# Altium schematic symbol library AltiumLibraries.SchLib: 565 symbols (part 5 of 5)
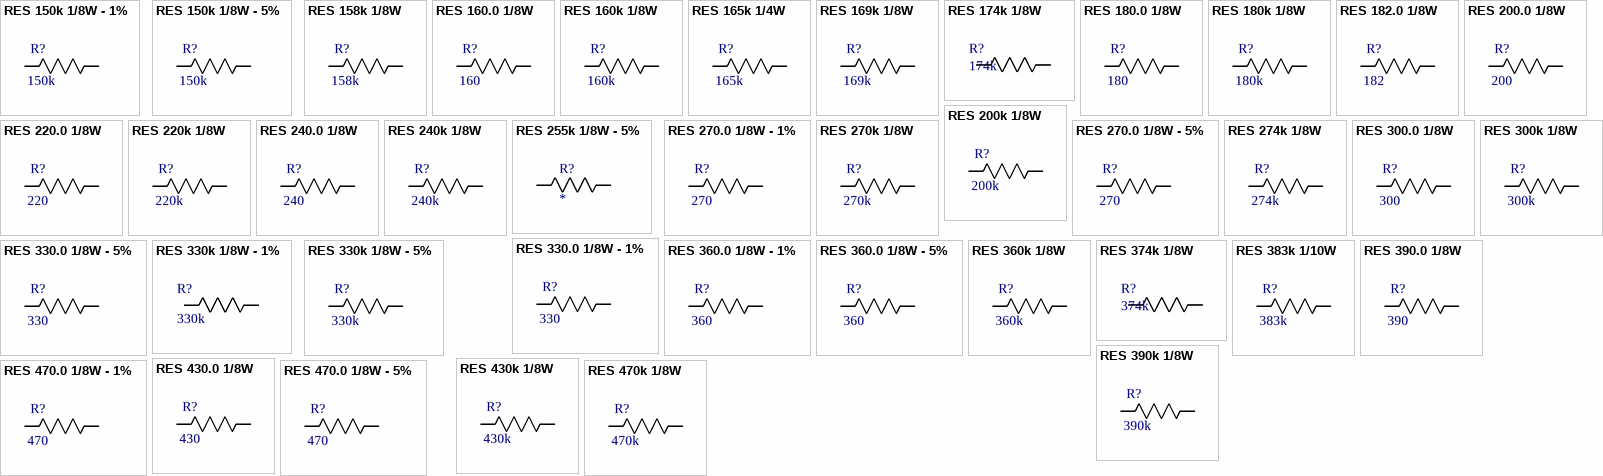
[diagram p19: symbols RES 150k 1/8W - 1% to RES 470k 1/8W]

## RES 374k 1/8W
designator R?, comment 374k
RES SMD 374K OHM 0.1% 1/8W 0805; Manufacturer: Panasonic; Manufacturer Part Number: ERA-6AEB3743V; Resistance: 374kR; Temperature Coefficient: 25ppm/°C; Max Power Dissipation: 125mW; Voltage Rating: 100V; Supplier 1: Digi-Key; RoHS: Yes; Category: Chip SMD Resistors; Stock 1: 10062; Pricing 1: 1=0.34000, 10=0.28800, 100=0.11260, 1000=0.04712, 2500=0.04320 (USD); Mount: Surface Mount; Case/Package: 0805; Number of Pins: 2; Contact Plating: Tin; Case Code (Metric): 2012; Case Code (Imperial): 0805; Min Operating Temperature: -55°C; Max Operating Temperature: 155°C; Tolerance: 0.1%; Packaging: Tape and Reel; Package Quantity: 5000; Features: Automotive AEC-Q200; Number of Terminations: 2; Composition: Thin Film,Metal Film; Power Rating: 125mW; Termination: Solder; Voltage Rating (DC): 100V; Length: 2mm; Height: 0.5mm; Width: 1.25mm; Depth: 1.25mm; Radiation Hardening: No; Lead Free: Lead Free; ComponentLink1URL: https://datasheet.ciiva.com/11810/0900766b80eb1d8c-11810612.pdf?src-supplier=RSComponents; ComponentLink1Description: https://datasheet.ciiva.com/11810/0900766b80eb1d8c-11810612.pdf?src-supplier=RSComponents; ComponentLink2URL: https://datasheet.ciiva.com/41450/001181392-da-01-en-widerstand-era-0805-374k-0-1-5000st-41450550.pdf?src-supplier=Conrad; ComponentLink2Description: https://datasheet.ciiva.com/41450/001181392-da-01-en-widerstand-era-0805-374k-0-1-5000st-41450550.pdf?src-supplier=Conrad; ComponentLink3URL: https://datasheet.ciiva.com/17206/aoa0000ce26-17206008.pdf?src-supplier=Avnet+Europe; ComponentLink3Description: https://datasheet.ciiva.com/17206/aoa0000ce26-17206008.pdf?src-supplier=Avnet+Europe; ComponentLink4URL: https://datasheet.ciiva.com/6001/485442-6001717.pdf?src-supplier=Farnell; ComponentLink4Description: https://datasheet.ciiva.com/6001/485442-6001717.pdf?src-supplier=Farnell; ComponentLink5URL: https://datasheet.ciiva.com/9182/aoa0000ce26-9182549.pdf?src-supplier=Avnet; ComponentLink5Description: https://datasheet.ciiva.com/9182/aoa0000ce26-9182549.pdf?src-supplier=Avnet; ComponentLink6URL: https://datasheet.ciiva.com/6001/485442-6001718.pdf?src-supplier=Farnell; ComponentLink6Description: https://datasheet.ciiva.com/6001/485442-6001718.pdf?src-supplier=Farnell; ComponentLink7URL: https://datasheet.ciiva.com/7753/485442-7753884.pdf?src-supplier=Element14; ComponentLink7Description: https://datasheet.ciiva.com/7753/485442-7753884.pdf?src-supplier=Element14; ComponentLink8URL: https://datasheet.ciiva.com/7753/485442-7753885.pdf?src-supplier=Element14; ComponentLink8Description: https://datasheet.ciiva.com/7753/485442-7753885.pdf?src-supplier=Element14; Supplier Part Number 1: P374KDACT-ND
footprint 0805
pins: 1 R1, 2 R2

## RES 383k 1/10W
designator R?, comment 383k
RES SMD 383k OHM 1% 1/10W 0603; Power (Watts): 0.1W; Package: 0603; Value: 383k; Tolerance: 1%
footprint 0603
pins: 1 R1, 2 R2

## RES 390.0 1/8W
designator R?, comment 390
RES SMD 390 OHM 5% 1/8W 0805; Power (Watts): 0.125W; Package: 0805; Value: 390; Tolerance: 5%
footprint 0805
pins: 1 R1, 2 R2

## RES 390k 1/8W
designator R?, comment 390k
RES SMD 390K OHM 5% 1/8W 0805; Power (Watts): 0.125W; Package: 0805; Value: 390k; Tolerance: 5%
footprint 0805
pins: 1 R1, 2 R2

## RES 430.0 1/8W
designator R?, comment 430
RES SMD 430 OHM 5% 1/8W 0805; Power (Watts): 0.125W; Package: 0805; Value: 430; Tolerance: 5%
footprint 0805
pins: 1 R1, 2 R2

## RES 430k 1/8W
designator R?, comment 430k
RES SMD 430K OHM 5% 1/8W 0805; Power (Watts): 0.125W; Package: 0805; Value: 430k; Tolerance: 5%
footprint 0805
pins: 1 R1, 2 R2

## RES 470.0 1/8W - 1%
designator R?, comment 470
RES SMD 470 OHM 1% 1/8W 0805; Power (Watts): 0.125W; Package: 0805; Value: 470; Tolerance: 1%
footprint 0805
pins: 1 R1, 2 R2

## RES 470.0 1/8W - 5%
designator R?, comment 470
RES SMD 470 OHM 5% 1/8W 0805; Power (Watts): 0.125W; Package: 0805; Value: 470; Tolerance: 5%
footprint 0805
pins: 1 R1, 2 R2

## RES 470k 1/8W
designator R?, comment 470k
RES SMD 470K OHM 5% 1/8W 0805; Power (Watts): 0.125W; Package: 0805; Value: 470k; Tolerance: 5%
footprint 0805
pins: 1 R1, 2 R2

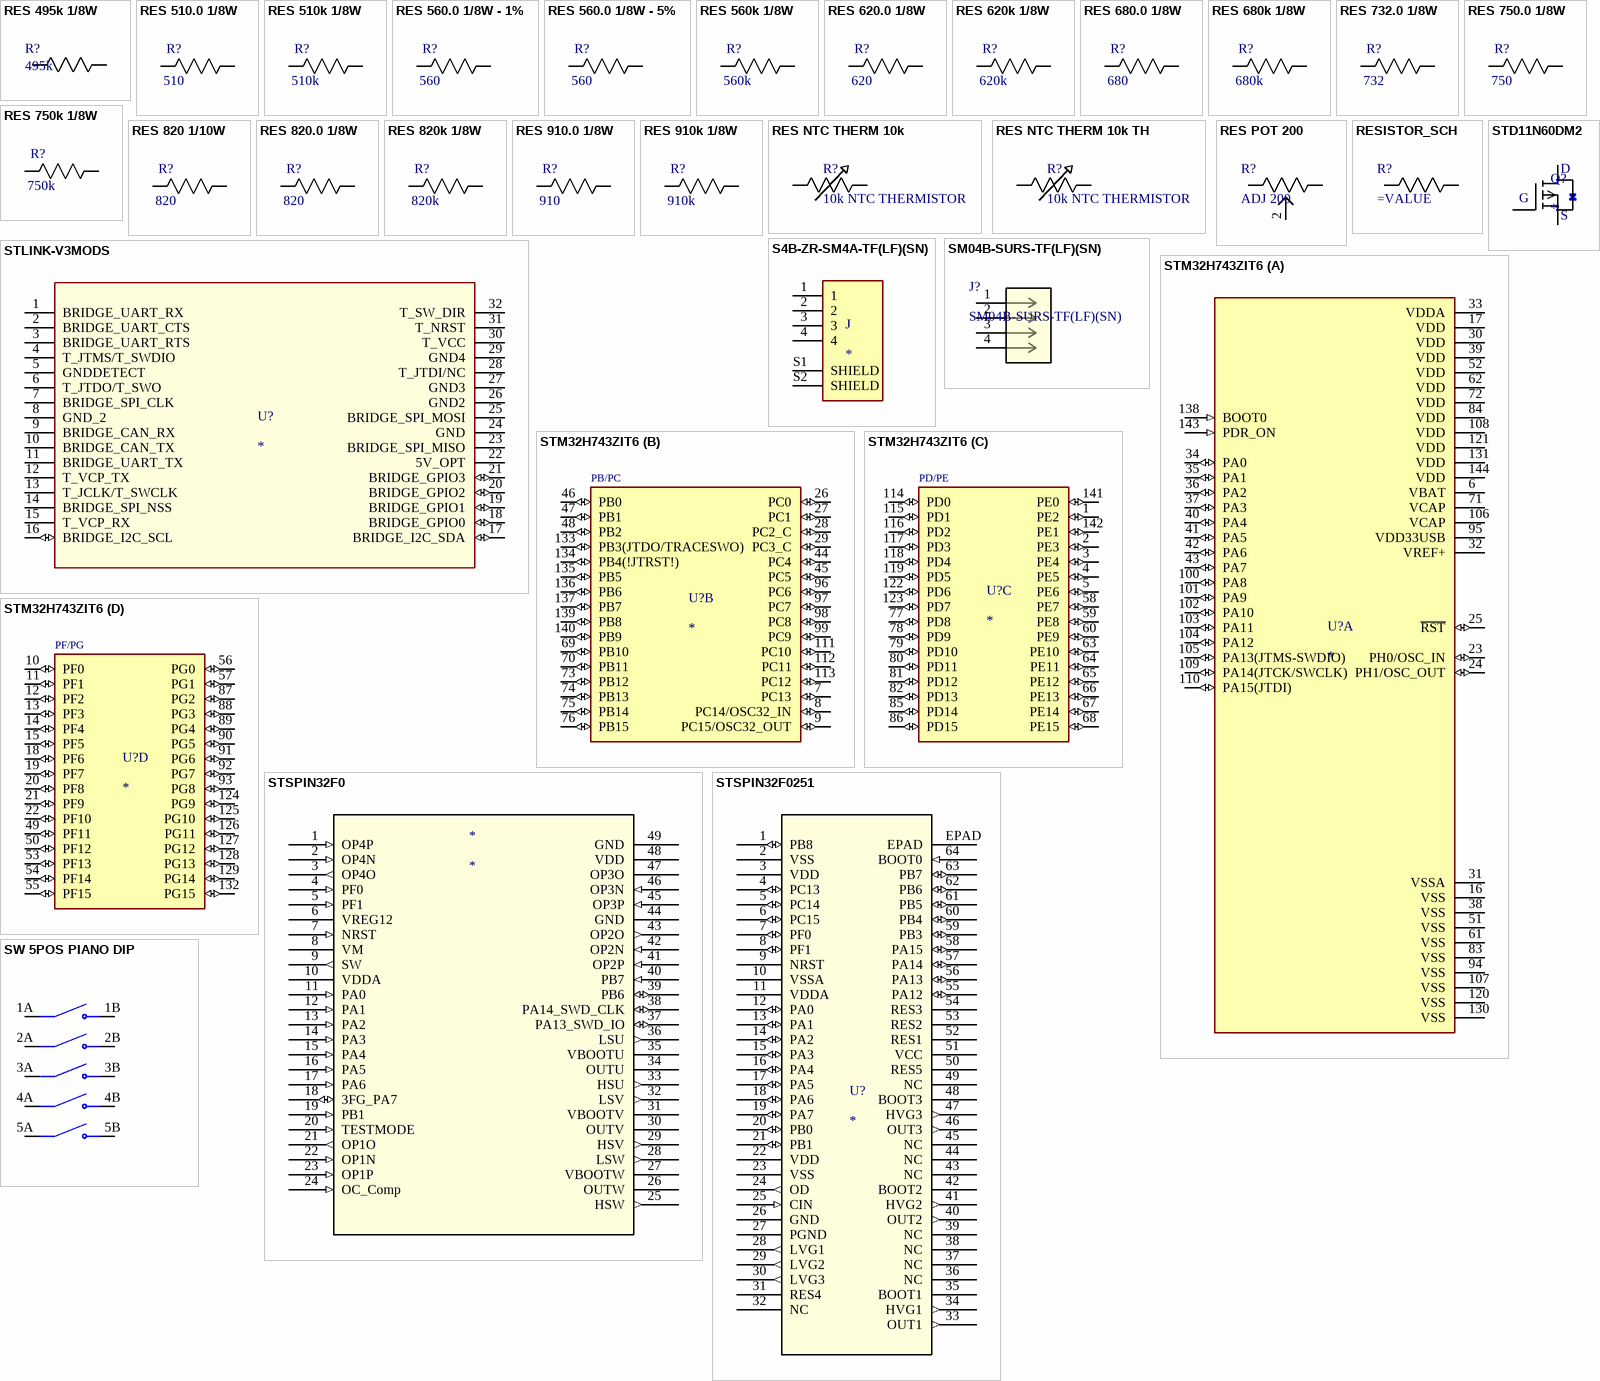
[diagram p13: symbols RES 495k 1/8W to SW 5POS PIANO DIP]

## RES 495k 1/8W
designator R?, comment 495k
RES SMD 495K OHM 1% 1/8W 0805/0603; Manufacturer: Yageo; Manufacturer Part Number: RC0805FR-07499KL; Temperature Coefficient: 100ppm/°C; Voltage Rating (DC): 150V; Resistance: 499kR; Power Rating: 125mW; Supplier 1: Digi-Key; RoHS: Yes; Category: Chip SMD Resistors; Stock 1: 2275; Pricing 1: 1=0.10000, 10=0.04000, 100=0.01630, 1000=0.00731, 2500=0.00635 (USD); Case/Package: 0805; Case Code (Metric): 2012; Case Code (Imperial): 0805; Contact Plating: Tin,Lead,Matte; Min Operating Temperature: -55°C; Max Operating Temperature: 155°C; Termination: SMD/SMT; Composition: Thick Film; Military Standard: Not; Tolerance: 1%; Voltage Rating: 150V; Packaging: Tape and Reel; Length: 2mm; Depth: 1.25mm; Radiation Hardening: No; Lead Free: Lead Free; ComponentLink1URL: https://datasheet.ciiva.com/15189/getdatasheetpartid-326570-15189975.pdf?src-supplier=Verical; ComponentLink1Description: https://datasheet.ciiva.com/15189/getdatasheetpartid-326570-15189975.pdf?src-supplier=Verical; Supplier Part Number 1: 311-499KCRCT-ND
footprint 0805
footprint 0603
pins: 1 R1, 2 R2

## RES 510.0 1/8W
designator R?, comment 510
RES SMD 510 OHM 5% 1/8W 0805; Power (Watts): 0.125W; Package: 0805; Value: 510; Tolerance: 5%
footprint 0805
pins: 1 R1, 2 R2

## RES 510k 1/8W
designator R?, comment 510k
RES SMD 510K OHM 5% 1/8W 0805; Power (Watts): 0.125W; Package: 0805; Value: 510k; Tolerance: 5%
footprint 0805
pins: 1 R1, 2 R2

## RES 560.0 1/8W - 1%
designator R?, comment 560
RES SMD 560 OHM 1% 1/8W 0805; Power (Watts): 0.125W; Package: 0805; Value: 560; Tolerance: 1%
footprint 0805
pins: 1 R1, 2 R2

## RES 560.0 1/8W - 5%
designator R?, comment 560
RES SMD 560 OHM 5% 1/8W 0805; Power (Watts): 0.125W; Package: 0805; Value: 560; Tolerance: 5%
footprint 0805
pins: 1 R1, 2 R2

## RES 560k 1/8W
designator R?, comment 560k
RES SMD 560K OHM 5% 1/8W 0805; Power (Watts): 0.125W; Package: 0805; Value: 560k; Tolerance: 5%
footprint 0805
pins: 1 R1, 2 R2

## RES 620.0 1/8W
designator R?, comment 620
RES SMD 620 OHM 5% 1/8W 0805; Power (Watts): 0.125W; Package: 0805; Value: 620; Tolerance: 5%
footprint 0805
pins: 1 R1, 2 R2

## RES 620k 1/8W
designator R?, comment 620k
RES SMD 620K OHM 5% 1/8W 0805; Power (Watts): 0.125W; Package: 0805; Value: 620k; Tolerance: 5%
footprint 0805
pins: 1 R1, 2 R2

## RES 680.0 1/8W
designator R?, comment 680
RES SMD 680 OHM 5% 1/8W 0805; Power (Watts): 0.125W; Package: 0805; Value: 680; Tolerance: 5%
footprint 0805
pins: 1 R1, 2 R2

## RES 680k 1/8W
designator R?, comment 680k
RES SMD 680K OHM 5% 1/8W 0805; Power (Watts): 0.125W; Package: 0805; Value: 680k; Tolerance: 5%
footprint 0805
pins: 1 R1, 2 R2

## RES 732.0 1/8W
designator R?, comment 732
RES SMD 732 OHM 1% 1/8W 0805; Power (Watts): 0.125W; Package: 0805; Value: 732; Tolerance: 1%
footprint 0805
pins: 1 R1, 2 R2

## RES 750.0 1/8W
designator R?, comment 750
RES SMD 750 OHM 5% 1/8W 0805; Power (Watts): 0.125W; Package: 0805; Value: 750; Tolerance: 5%
footprint 0805
pins: 1 R1, 2 R2

## RES 750k 1/8W
designator R?, comment 750k
RES SMD 750K OHM 5% 1/8W 0805; Power (Watts): 0.125W; Package: 0805; Value: 750k; Tolerance: 5%
footprint 0805
pins: 1 R1, 2 R2

## RES 820 1/10W
designator R?, comment 820
RES SMD 820 OHM 1% 1/10W 0603; Power (Watts): 0.1W; Package: 0603; Value: 820; Tolerance: 1%
footprint 0603 (Chip Resistor, 2-Leads, Body 1.60x0.80mm, IPC High Density)
pins: 1 R1, 2 R2

## RES 820.0 1/8W
designator R?, comment 820
RES SMD 820 OHM 5% 1/8W 0805; Power (Watts): 0.125W; Package: 0805; Value: 820; Tolerance: 5%
footprint 0805
pins: 1 R1, 2 R2

## RES 820k 1/8W
designator R?, comment 820k
RES SMD 820k OHM 5% 1/8W 0805; Power (Watts): 0.125W; Package: 0805; Value: 820k; Tolerance: 5%
footprint 0805
pins: 1 R1, 2 R2

## RES 910.0 1/8W
designator R?, comment 910
RES SMD 910 OHM 5% 1/8W 0805; Power (Watts): 0.125W; Package: 0805; Value: 910; Tolerance: 5%
footprint 0805
pins: 1 R1, 2 R2

## RES 910k 1/8W
designator R?, comment 910k
RES SMD 910k OHM 5% 1/8W 0805; Power (Watts): 0.125W; Package: 0805; Value: 910k; Tolerance: 5%
footprint 0805
pins: 1 R1, 2 R2

## RES NTC THERM 10k
designator R?, comment 10k NTC THERMISTOR
RES SMD THERMISTOR NTC 10KOHM 3380K 0603; Manufacturer: Murata; MPN: NCP18XH103F03RB; Manufacturer Series: NCP18; Number of Terminals/Pins: 2; Tolerance: 1%; Power Rating: 100mW; Current Rating: 310uA; Accuracy: 0.7%; Thermistor Application: TEMPERATURE COMPENSATION; Supplier 1: Digi-Key; RoHS: Yes; Category: Thermistors; Stock 1: 172605; Pricing 1: 1=0.26000, 5=0.23400, 10=0.20800, 25=0.18600, 50=0.16340, 100=0.13930, 500=0.11518, 1000=0.09643 (USD); Mount: Surface Mount; Case/Package: 0603; Number of Pins: 2; Case Code (Metric): 1608; Case Code (Imperial): 0603; Terminal Finish: Tin; Package Shape: Rectangular; Min Operating Temperature: -40°C; Max Operating Temperature: 125°C; Resistance: 10k; Packaging: Tape and Reel; Package Quantity: 1; Termination: SMD/SMT; Max Power Dissipation: 100mW; Series: NCP; Resistance Tolerance: 1%; Terminal Placement: Dual; Length: 1.6mm; Height: 0.8mm; Depth: 0.8mm; Radiation Hardening: No; REACH SVHC: No SVHC; Lead Free: Lead Free; RoHS Compliant: Yes; ComponentLink1URL: https://datasheet.ciiva.com/4504/r44e-3685-4504704.pdf?src-supplier=Mouser; ComponentLink1Description: https://datasheet.ciiva.com/4504/r44e-3685-4504704.pdf?src-supplier=Mouser; ComponentLink2URL: https://datasheet.ciiva.com/11822/0900766b807f1e39-11822112.pdf?src-supplier=RSComponents; ComponentLink2Description: https://datasheet.ciiva.com/11822/0900766b807f1e39-11822112.pdf?src-supplier=RSComponents; ComponentLink3URL: https://datasheet.ciiva.com/3280/l0770e-3280357.pdf?src-supplier=Avnet; ComponentLink3Description: https://datasheet.ciiva.com/3280/l0770e-3280357.pdf?src-supplier=Avnet; ComponentLink4URL: https://datasheet.ciiva.com/3280/l0770e-3280679.pdf?src-supplier=Avnet; ComponentLink4Description: https://datasheet.ciiva.com/3280/l0770e-3280679.pdf?src-supplier=Avnet; ComponentLink5URL: https://datasheet.ciiva.com/2848/r44e-2848445.pdf?src-supplier=Digi-Key; ComponentLink5Description: https://datasheet.ciiva.com/2848/r44e-2848445.pdf?src-supplier=Digi-Key; ComponentLink6URL: https://datasheet.ciiva.com/2848/r44e-2848446.pdf?src-supplier=Digi-Key; ComponentLink6Description: https://datasheet.ciiva.com/2848/r44e-2848446.pdf?src-supplier=Digi-Key; ComponentLink7URL: https://datasheet.ciiva.com/2848/r44e-2848447.pdf?src-supplier=Digi-Key; ComponentLink7Description: https://datasheet.ciiva.com/2848/r44e-2848447.pdf?src-supplier=Digi-Key; ComponentLink8URL: https://datasheet.ciiva.com/16635/l0770e-16635071.pdf?src-supplier=Avnet+Europe; ComponentLink8Description: https://datasheet.ciiva.com/16635/l0770e-16635071.pdf?src-supplier=Avnet+Europe; ComponentLink9URL: https://datasheet.ciiva.com/17993/getdatasheetpartid-153236-17993210.pdf?src-supplier=Verical; ComponentLink9Description: https://datasheet.ciiva.com/17993/getdatasheetpartid-153236-17993210.pdf?src-supplier=Verical; ComponentLink10URL: https://datasheet.ciiva.com/16469/l0770e-16469741.pdf?src-supplier=Future+Electronics; ComponentLink10Description: https://datasheet.ciiva.com/16469/l0770e-16469741.pdf?src-supplier=Future+Electronics; Supplier Part Number 1: 490-4800-1-ND
footprint NTC TH 0.4mm Lead (0.4mm Lead, 2.5mm Spacing)
pins: 1 R1, 2 R2

## RES NTC THERM 10k TH
designator R?, comment 10k NTC THERMISTOR
THERMISTOR NTC 10KOHM 3380K BEAD THROUGH HOLE; Manufacturer: Murata; Manufacturer Part Number: NXRT15XH103FA1B020; Tolerance: 1%; Resistance: 10kR; Max Power Dissipation: 7.5mW; Lead Diameter: 0.4mm; Supplier 1: Digi-Key; RoHS: Yes; Category: Thermistors; Stock 1: 9000; Pricing 1: 1=0.77000, 5=0.73400, 10=0.63800, 25=0.56040, 50=0.46560, 100=0.39670, 500=0.34496, 1000=0.30184, 5000=0.26734 (USD); Mount: Through Hole; Number of Pins: 2; Min Operating Temperature: -40°C; Max Operating Temperature: 125°C; Packaging: Bulk; Package Quantity: 500; Termination: Radial; Power Rating: 7.5mW; Length: 5mm; Width: 4mm; Height: 2mm; Lead Pitch: 2.5mm; RoHS Compliant: No; ComponentLink1URL: https://datasheet.ciiva.com/29706/r44e-29706191.pdf?src-supplier=Digi-Key; ComponentLink1Description: https://datasheet.ciiva.com/29706/r44e-29706191.pdf?src-supplier=Digi-Key; Supplier Part Number 1: 490-13396-ND
footprint NTC TH 0.4mm Lead (0.4mm Lead, 2.5mm Spacing)
pins: 1 R1, 2 R2

## RES POT 200
designator R?, comment ADJ 200
SMD Potentiometer 200Ohm Range
footprint POT SMD (SMD Potentiometer NIDEC ST32EB)
pins: 1, 2, 3

## RESISTOR_SCH
designator R?
pins: 1 R1, 2 R2

## S4B-ZR-SM4A-TF(LF)(SN)
designator J
Connector Header Surface Mount, Right Angle 4 position 0.059 (1.50mm); MF: JST Sales; MP: S4B-ZR-SM4A-TF(LF)(SN); SnapEDA_Link: https://www.snapeda.com/parts/S4B-ZR-SM4A-TF(LF)(SN)/JST%20Sales%20America%20Inc./view-part/449060/?ref=snap; Availability: Unavailable; Value: *; Price: None; Arrow_Electronics-Purchase-URL: https://snapeda.com/shop?store=Arrow+Electronics&id=449060; Package: None
footprint JST_S4B-ZR-SM4A-TF(LF)(SN)
pins: 1, 2, 3, 4, S1 SHIELD, S2 SHIELD

## SM04B-SURS-TF(LF)(SN)
designator J?
No Description Available; Mfr_Name: JST; Copyright: Copyright (C) 2022 Ultra Librarian. All rights reserved.; Manufacturer_Part_Number: SM04B-SURS-TF(LF)(SN); Digi-Key_Part_Number_1: 455-3589-2-ND; Digi-Key_Part_Number_2: 455-3589-1-ND; Digi-Key_Part_Number_3: 455-3589-6-ND; RefDes: RefDes; Type: DEV
footprint CONN_SM04B-SURS-TF_JST
pins: 1, 2, 3, 4

## STD11N60DM2
designator Q?
MFG: STMicroelectronics; Supplier: Digikey; Supplier PN: 497-16925-1-ND
footprint DPAK (TO-252); pin to pad D>2 G>1 S>3
pins: D, G, S

## STLINK-V3MODS
designator U?
STM32 - Debugger, Programmer (In-Circuit/In-System); MF: STMicroelectronics; MP: STLINK-V3MODS; Price: $12.15; ComponentLink1Description: Digikey; ComponentLink1URL: https://www.digikey.ca/en/products/detail/stmicroelectronics/stlink-v3mods/11610874; ComponentLink2Description: SnapEDA; ComponentLink2URL: https://www.snapeda.com/parts/STLINK-V3MODS/STMicroelectronics/view-part/; ComponentLink3Description: Datasheet; ComponentLink3URL: https://www.st.com/resource/en/data_brief/stlink-v3mods.pdf; Digikey: 497-STLINK-V3MODS-ND
footprint STLINK-V3MODS (STLINK V3 COMPACT IN-CIRCUIT DEB)
pins: 1 BRIDGE_UART_RX, 2 BRIDGE_UART_CTS, 3 BRIDGE_UART_RTS, 4 T_JTMS/T_SWDIO, 5 GNDDETECT, 6 T_JTDO/T_SWO, 7 BRIDGE_SPI_CLK, 8 GND_2, 9 BRIDGE_CAN_RX, 10 BRIDGE_CAN_TX, 11 BRIDGE_UART_TX, 12 T_VCP_TX, 13 T_JCLK/T_SWCLK, 14 BRIDGE_SPI_NSS, 15 T_VCP_RX, 16 BRIDGE_I2C_SCL (io), 17 BRIDGE_I2C_SDA (io), 18 BRIDGE_GPIO0 (io), 19 BRIDGE_GPIO1 (io), 20 BRIDGE_GPIO2 (io), 21 BRIDGE_GPIO3 (io), 22 5V_OPT, 23 BRIDGE_SPI_MISO, 24 GND, 25 BRIDGE_SPI_MOSI, 26 GND2, 27 GND3, 28 T_JTDI/NC, 29 GND4, 30 T_VCC, 31 T_NRST, 32 T_SW_DIR

## STM32H743ZIT6
designator U?
ARM® Cortex®-M7 STM32H7 Microcontroller IC 32-Bit 480MHz 2MB (2M x 8) FLASH 144-LQFP (20x20); MP: STM32H743ZIT6; MF: STMicroelectronics; Package: LQFP-144 STMicroelectronics; ComponentLink1Description: SnapEDA; ComponentLink1URL: https://www.snapeda.com/parts/STM32H743ZIT6/STMicroelectronics/view-part/1041111/?ref=snap; ComponentLink2Description: DigiKey; ComponentLink2URL: https://www.digikey.ca/en/products/detail/stmicroelectronics/STM32H743ZIT6/7809238; ComponentLink3Description: Datasheet; ComponentLink3URL: https://www.st.com/resource/en/datasheet/stm32h743bi.pdf; Digikey: 497-17721-ND
footprint QFP50P2200X2200X160-144N (STM32H743ZiT6)
part A pins: 6 VBAT (power), 16 VSS (power), 17 VDD (power), 23 PH0/OSC_IN (io), 24 PH1/OSC_OUT (io), 25 ~{RST} (io), 30 VDD (power), 31 VSSA (power), 32 VREF+ (power), 33 VDDA (power), 34 PA0 (io), 35 PA1 (io), 36 PA2 (io), 37 PA3 (io), 38 VSS (power), 39 VDD (power), 40 PA4 (io), 41 PA5 (io), 42 PA6 (io), 43 PA7 (io), 51 VSS (power), 52 VDD (power), 61 VSS (power), 62 VDD (power), 71 VCAP (power), 72 VDD (power), 83 VSS (power), 84 VDD (power), 94 VSS (power), 95 VDD33USB (power), 100 PA8 (io), 101 PA9 (io), 102 PA10 (io), 103 PA11 (io), 104 PA12 (io), 105 PA13(JTMS-SWDIO) (io), 106 VCAP (power), 107 VSS (power), 108 VDD (power), 109 PA14(JTCK/SWCLK) (io), 110 PA15(JTDI) (io), 120 VSS (power), 121 VDD (power), 130 VSS (power), 131 VDD (power), 138 BOOT0 (in), 143 PDR_ON (in), 144 VDD (power)
part B pins: 7 PC13 (io), 8 PC14/OSC32_IN (io), 9 PC15/OSC32_OUT (io), 26 PC0 (io), 27 PC1 (io), 28 PC2_C (io), 29 PC3_C (io), 44 PC4 (io), 45 PC5 (io), 46 PB0 (io), 47 PB1 (io), 48 PB2 (io), 69 PB10 (io), 70 PB11 (io), 73 PB12 (io), 74 PB13 (io), 75 PB14 (io), 76 PB15 (io), 96 PC6 (io), 97 PC7 (io), 98 PC8 (io), 99 PC9 (io), 111 PC10 (io), 112 PC11 (io), 113 PC12 (io), 133 PB3(JTDO/TRACESWO) (io), 134 PB4(!JTRST!) (io), 135 PB5 (io), 136 PB6 (io), 137 PB7 (io), 139 PB8 (io), 140 PB9 (io)
part C pins: 1 PE2 (io), 2 PE3 (io), 3 PE4 (io), 4 PE5 (io), 5 PE6 (io), 58 PE7 (io), 59 PE8 (io), 60 PE9 (io), 63 PE10 (io), 64 PE11 (io), 65 PE12 (io), 66 PE13 (io), 67 PE14 (io), 68 PE15 (io), 77 PD8 (io), 78 PD9 (io), 79 PD10 (io), 80 PD11 (io), 81 PD12 (io), 82 PD13 (io), 85 PD14 (io), 86 PD15 (io), 114 PD0 (io), 115 PD1 (io), 116 PD2 (io), 117 PD3 (io), 118 PD4 (io), 119 PD5 (io), 122 PD6 (io), 123 PD7 (io), 141 PE0 (io), 142 PE1 (io)
part D pins: 10 PF0 (io), 11 PF1 (io), 12 PF2 (io), 13 PF3 (io), 14 PF4 (io), 15 PF5 (io), 18 PF6 (io), 19 PF7 (io), 20 PF8 (io), 21 PF9 (io), 22 PF10 (io), 49 PF11 (io), 50 PF12 (io), 53 PF13 (io), 54 PF14 (io), 55 PF15 (io), 56 PG0 (io), 57 PG1 (io), 87 PG2 (io), 88 PG3 (io), 89 PG4 (io), 90 PG5 (io), 91 PG6 (io), 92 PG7 (io), 93 PG8 (io), 124 PG9 (io), 125 PG10 (io), 126 PG11 (io), 127 PG12 (io), 128 PG13 (io), 129 PG14 (io), 132 PG15 (io)
part B text: PB/PC
part C text: PD/PE
part D text: PF/PG

## STSPIN32F0
designator *
IC BLDC CTLR STM32 48VFQFPN; MF: ST; Rating: 8V ~ 45V; Digikey Link: https://www.digikey.ca/en/products/detail/stmicroelectronics/STSPIN32F0/6236758; Digikey PN: 497-16978-ND; MF Link: https://www.st.com/en/motor-drivers/stspin32f0.html
footprint STSPIN32F0
pins: 1 OP4P (in), 2 OP4N (in), 3 OP4O (out), 4 PF0 (in), 5 PF1 (in), 6 VREG12 (power), 7 NRST (in), 8 VM (power), 9 SW (out), 10 VDDA (power), 11 PA0 (in), 12 PA1 (in), 13 PA2 (in), 14 PA3 (in), 15 PA4 (in), 16 PA5 (in), 17 PA6 (in), 18 3FG_PA7 (io), 19 PB1 (in), 20 TESTMODE (in), 21 OP1O (out), 22 OP1N (in), 23 OP1P (in), 24 OC_Comp (in), 25 HSW (out), 26 OUTW (power), 27 VBOOTW (power), 28 LSW (out), 29 HSV (out), 30 OUTV (power), 31 VBOOTV (power), 32 LSV (out), 33 HSU (out), 34 OUTU (power), 35 VBOOTU (power), 36 LSU (out), 37 PA13_SWD_IO (io), 38 PA14_SWD_CLK (io), 39 PB6 (io), 40 PB7 (in), 41 OP2P (in), 42 OP2N (in), 43 OP2O (out), 44 GND, 45 OP3P (in), 46 OP3N (in), 47 OP3O, 48 VDD (power), 49 GND

## STSPIN32F0251
designator U?
250 V BLDC THREE-PHASE CONTROLLER; Manufacturer: STMicroelectronics; Manufacturer PN: STSPIN32F0251TR; V rating: 9V ~ 20V; Digikey Link: https://www.digikey.ca/en/products/detail/stmicroelectronics/STSPIN32F0251TR/11591126; Digikey PN: 497-STSPIN32F0251CT-ND; Package: 64-TQFP Exposed Pad
footprint STSPIN32F0251TR
pins: 1 PB8 (io), 2 VSS, 3 VDD (power), 4 PC13 (io), 5 PC14 (io), 6 PC15 (io), 7 PF0 (io), 8 PF1 (io), 9 NRST, 10 VSSA, 11 VDDA (power), 12 PA0 (io), 13 PA1 (io), 14 PA2 (io), 15 PA3 (io), 16 PA4 (io), 17 PA5 (io), 18 PA6 (io), 19 PA7 (io), 20 PB0 (io), 21 PB1 (io), 22 VDD (power), 23 VSS, 24 OD (out), 25 CIN (in), 26 GND, 27 PGND, 28 LVG1 (out), 29 LVG2 (out), 30 LVG3 (out), 31 RES4, 32 NC, 33 OUT1 (out), 34 HVG1 (out), 35 BOOT1 (power), 36 NC, 37 NC, 38 NC, 39 NC, 40 OUT2 (out), 41 HVG2 (out), 42 BOOT2 (power), 43 NC, 44 NC, 45 NC, 46 OUT3 (out), 47 HVG3 (out), 48 BOOT3 (power), 49 NC, 50 RES5, 51 VCC (power), 52 RES1, 53 RES2, 54 RES3, 55 PA12 (io), 56 PA13 (io), 57 PA14 (io), 58 PA15 (io), 59 PB3 (io), 60 PB4 (io), 61 PB5 (io), 62 PB6 (io), 63 PB7 (io), 64 BOOT0 (in), EPAD

## SW 5POS PIANO DIP
designator S?  (value not drawn)
Switch DIP ON OFF SPST 5 Piano 0.15A 30VDC PC Pins 2000Cycle/SwitchCycle 2.54mm Thru-Hole Tube; Manufacturer: Grayhill; Manufacturer Part Number: 76PSB05T; Body Material: Thermoplastic; Mechanical Life: 2000Cycles; Max Voltage Rating (DC): 30V; Number of Positions: 5; Max Current Rating: 150mA; Pitch: 0.1inch; Washable: No; Supplier 1: Digi-Key; RoHS: Yes; Category: DIP Switches; Stock 1: 1014; Pricing 1: 1=1.69000, 18=1.64444, 36=1.49556, 54=1.39407, 90=1.29922, 234=1.17748, 450=1.09624, 954=1.01505, 4914=0.85264 (USD); Mount: Through Hole,PCB; Contact Material: Copper Alloy,Gold; Contact Plating: Gold,Nickel; Min Operating Temperature: -40°C; Max Operating Temperature: 85°C; Throw Configuration: SPST; Termination: PC Pins; Voltage Rating (DC): 30V; Packaging: Rail/Tube; Current Rating: 150mA; Electrical Life: 2000Cycles; Contact Current Rating: 150mA; Orientation: Straight; Series: 76; Actuator Type: PIANO; Number of Switches: 5; Length: 0.58inch; Terminal Pitch: 2.54mm; Radiation Hardening: No; Lead Free: Lead Free; RoHS Compliant: Yes; ComponentLink1URL: https://datasheet.ciiva.com/2864/dip-series-76-spst-2864378.pdf?src-supplier=Digi-Key; ComponentLink1Description: https://datasheet.ciiva.com/2864/dip-series-76-spst-2864378.pdf?src-supplier=Digi-Key; ComponentLink2URL: https://datasheet.ciiva.com/16198/87dip-series-76-spst-16198439.pdf?src-supplier=Onlinecomponents.com; ComponentLink2Description: https://datasheet.ciiva.com/16198/87dip-series-76-spst-16198439.pdf?src-supplier=Onlinecomponents.com; ComponentLink3URL: https://datasheet.ciiva.com/16385/dip-series-76-spst-16385195.pdf?src-supplier=Future+Electronics; ComponentLink3Description: https://datasheet.ciiva.com/16385/dip-series-76-spst-16385195.pdf?src-supplier=Future+Electronics; Supplier Part Number 1: GH7138-ND
footprint SW 5POS PIANO
pins: 1A COM1, 1B NO1, 2A COM2, 2B NO2, 3A COM3, 3B NO3, 4A COM4, 4B NO4, 5A COM4, 5B NO4

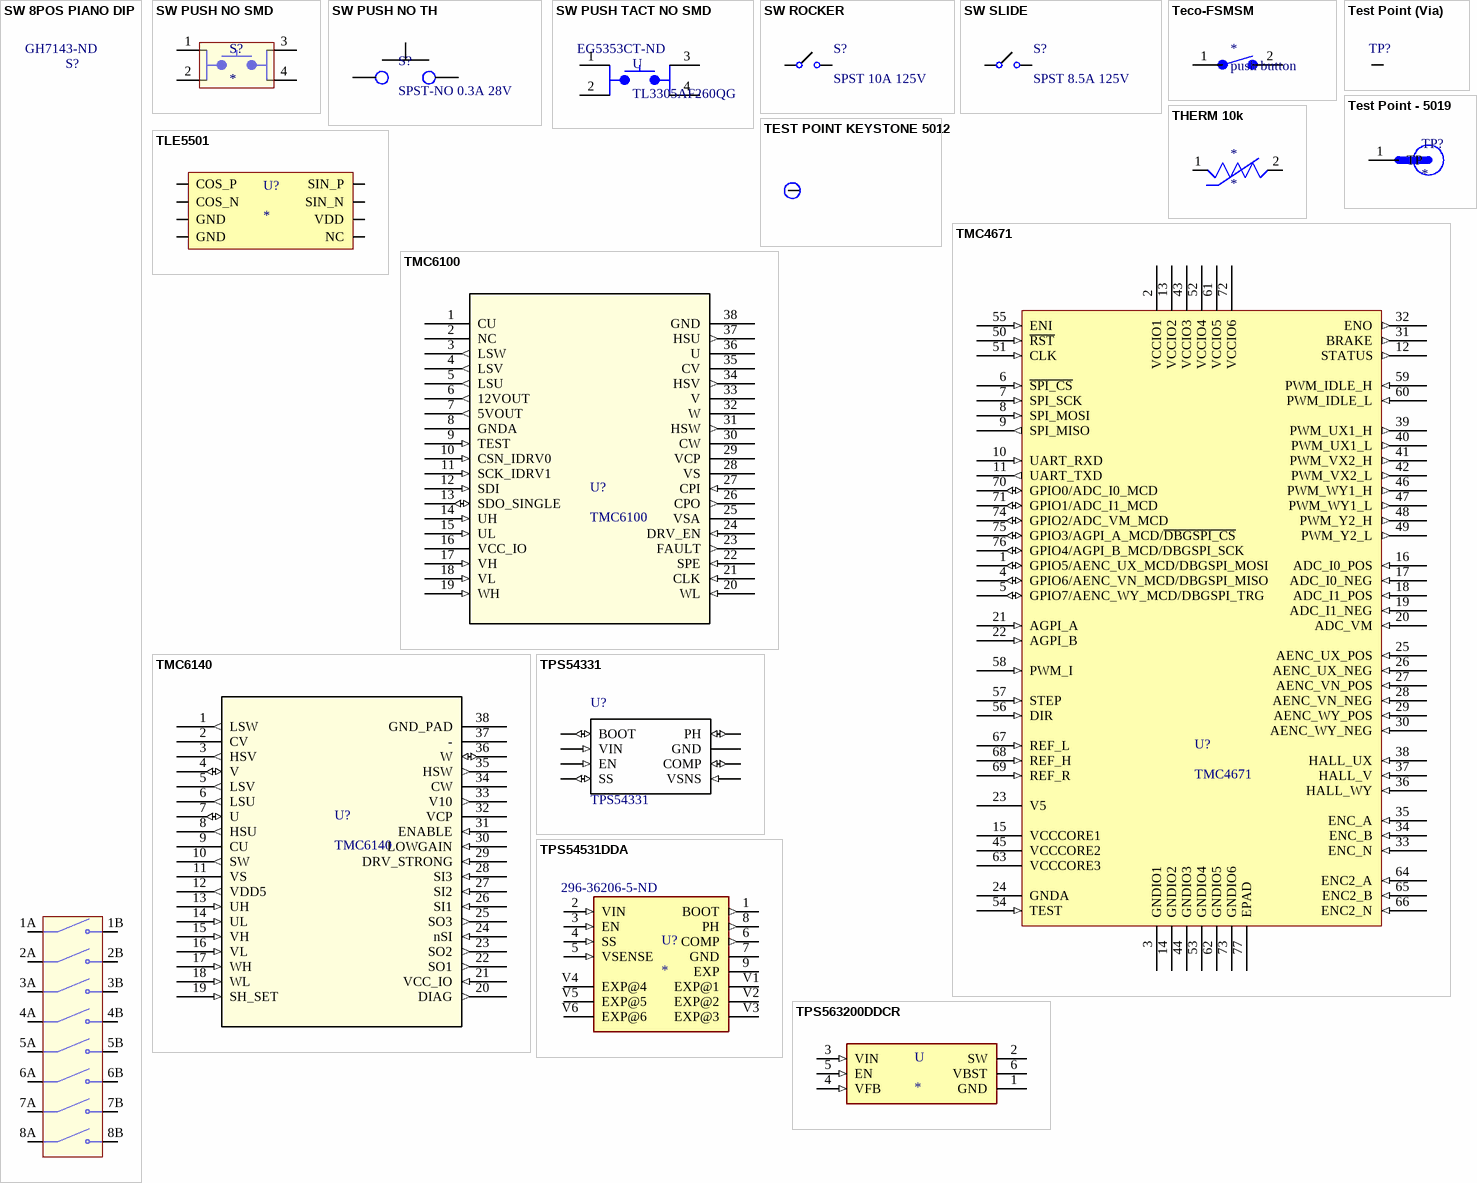
[diagram p14: symbols SW 8POS PIANO DIP to TPS563200DDCR]

## SW 8POS PIANO DIP
designator S?  Supplier Part Number 1: GH7143-ND  (hidden comment: *)
GRAYHILL         76PSB08ST             DIP / SIP Switch, 76 Series, SPST, Through Hole, 8 Circuits, DIP Sealed, 30 VDC; Body Material: Thermoplastic; Mechanical Life: 2000Cycles; Max Voltage Rating (DC): 30V; Number of Positions: 8; Contact Current Rating: 150mA; Insulation Resistance: 5GR; Actuator Type: PIANO; Pitch: 0.1inch; Lead Length: 3.96mm; Washable: Yes; Supplier 1: Digi-Key; Manufacturer: Grayhill; Manufacturer Part Number: 76PSB08ST; RoHS: Yes; Category: DIP Switches; Stock 1: 10203; Pricing 1: 1=1.72000, 12=1.67500, 36=1.52333, 84=1.32345, 240=1.19942, 444=1.11671, 948=1.03399, 4908=0.86855 (USD); Mount: Through Hole,PCB; Contact Material: Copper Alloy,Gold; Contact Plating: Gold,Nickel; Min Operating Temperature: -40°C; Max Operating Temperature: 85°C; Throw Configuration: SPST; Termination: PC Pins; Voltage Rating (DC): 30V; Packaging: Rail/Tube; Current Rating: 150mA; Max Current Rating: 150mA; Electrical Life: 2000Cycles; Number of Circuits: 8; Orientation: Straight; Series: 76; Number of Switches: 8; Length: 0.88inch; Terminal Pitch: 2.54mm; Depth: 9.65mm; Radiation Hardening: No; REACH SVHC: No SVHC; Lead Free: Lead Free; RoHS Compliant: Yes; ComponentLink1URL: https://datasheet.ciiva.com/19471/696829-19471599.pdf?src-supplier=Jameco; ComponentLink1Description: https://datasheet.ciiva.com/19471/696829-19471599.pdf?src-supplier=Jameco; ComponentLink2URL: https://datasheet.ciiva.com/2863/dip-series-76-spst-2863894.pdf?src-supplier=Digi-Key; ComponentLink2Description: https://datasheet.ciiva.com/2863/dip-series-76-spst-2863894.pdf?src-supplier=Digi-Key; ComponentLink3URL: https://datasheet.ciiva.com/16397/dip-series-76-spst-16397753.pdf?src-supplier=Future+Electronics; ComponentLink3Description: https://datasheet.ciiva.com/16397/dip-series-76-spst-16397753.pdf?src-supplier=Future+Electronics; ComponentLink4URL: https://datasheet.ciiva.com/14538/70216655-14538540.pdf?src-supplier=Allied+Electronics; ComponentLink4Description: https://datasheet.ciiva.com/14538/70216655-14538540.pdf?src-supplier=Allied+Electronics; ComponentLink5URL: https://datasheet.ciiva.com/15184/getdatasheetpartid-92366-15184812.pdf?src-supplier=Verical; ComponentLink5Description: https://datasheet.ciiva.com/15184/getdatasheetpartid-92366-15184812.pdf?src-supplier=Verical; ComponentLink6URL: https://datasheet.ciiva.com/1528/1884225-1528968.pdf?src-supplier=Element14; ComponentLink6Description: https://datasheet.ciiva.com/1528/1884225-1528968.pdf?src-supplier=Element14
footprint SW 8POS PIANO
pins: 1A COM1, 1B NO1, 2A COM2, 2B NO2, 3A COM3, 3B NO3, 4A COM4, 4B NO4, 5A COM5, 5B NO5, 6A COM6, 6B NO6, 7A COM7, 7B NO7, 8A COM8, 8B NO8

## SW PUSH NO SMD
designator S?
Switch Tactile N.O. SPST Round Button Gull Wing 0.05A 12VDC 2.55N SMD T/R; MF: E-Switch; MP: TL3305BF260QG; Circuit: SPST-NO; Switch Function: Off-Mom; Actuator Height: 5mm; Mechanical Life: 200000Cycles; Illumination Type: Non-Illuminated; Operating Force: 260gf; Switch Travel: 0.2mm; Actuator Type: Standard; Digikey: EG5354DKR-ND; ComponentLink1Description: Digikey; ComponentLink1URL: https://www.digikey.ca/en/products/detail/e-switch/TL3305BF260QG/5816185; ComponentLink2Description: Datasheet; ComponentLink2URL: https://sten-eswitch-13110800-production.s3.amazonaws.com/system/asset/product_line/data_sheet/213/TL3305.pdf; Mounting Type: SMD; Supplier 1: Digi-Key; Manufacturer: E-Switch; Manufacturer Part Number: TL3305BF260QG; RoHS: Yes; Category: Tactile Switches; Pricing 1: 1=0.23000, 10=0.22600, 25=0.21400, 100=0.19360, 250=0.17652, 500=0.16410 (USD); Mount: Surface Mount; Min Operating Temperature: -20°C; Max Operating Temperature: 70°C; Packaging: Tape and Reel; Termination: Gull Wing; Throw Configuration: SPST; Lead Free: Lead Free; RoHS Compliant: Yes; ComponentLink3URL: http://www.farnell.com/datasheets/2554191.pdf?src-supplier=Farnell; ComponentLink3Description: http://www.farnell.com/datasheets/2554191.pdf?src-supplier=Farnell; ComponentLink4URL: https://www.e-switch.com/system/asset/product_line/data_sheet/213/TL3305.pdf?src-supplier=Digi-Key; ComponentLink4Description: https://www.e-switch.com/system/asset/product_line/data_sheet/213/TL3305.pdf?src-supplier=Digi-Key; ComponentLink5URL: http://spec_sheets.e-switch.com/specs/P010472.pdf?src-supplier=Digi-Key; ComponentLink5Description: http://spec_sheets.e-switch.com/specs/P010472.pdf?src-supplier=Digi-Key; ComponentLink6URL: http://www.farnell.com/datasheets/2554191.pdf?src-supplier=Newark; ComponentLink6Description: http://www.farnell.com/datasheets/2554191.pdf?src-supplier=Newark; Supplier Part Number 1: EG5354CT-ND
footprint TL3305 (TL3305 SPST-NO)
pins: 1, 2, 3, 4

## SW PUSH NO TH
designator S?, comment SPST-NO 0.3A 28V
Pushbutton Switch SPST-NO Standard Through Hole; MF: E-Switch; MP: PB300STQ; Rating: 28V 0.3A; ComponentLink1Description: Digikey; ComponentLink1URL: https://www.digikey.ca/product-detail/en/e-switch/PB300STQ/EG5398-ND/6126493; ComponentLink2Description: Datasheet; ComponentLink2URL: https://sten-eswitch-13110800-production.s3.amazonaws.com/system/asset/product_line/data_sheet/222/PB300.pdf; Digikey: EG5398-ND; Digikey Link: https://www.digikey.ca/product-detail/en/e-switch/PB300STQ/EG5398-ND/6126493; Price: 3.40000 CAD
footprint PB300STQ (SWITCH PUSH SPST-NO 0.3A 28V)
pins: 1, 2

## SW PUSH TACT NO SMD
designator U, comment TL3305AF260QG  Supplier Part Number 1: EG5353CT-ND
Tactile Switch SPST-NO Top Actuated Surface Mount; MF: E-Switch; Price: None; Value: *; MP: TL3305AF260QG; Package: LQFP-48 E-Switch; SnapEDA_Link: https://www.snapeda.com/parts/TL3305AF260QG/E-Switch/view-part/479903/?ref=snap; Availability: Unavailable; Supplier 1: Digi-Key
footprint SW_TL3305AF260QG
pins: 1, 2, 3, 4

## SW ROCKER
designator S?, comment SPST 10A 125V
Rocker Switch SPST 10A (AC) 125V Panel Mount, Snap-In; MP: SRB22A2FBBNN; MF: ZF Electronics; Digikey: CH755-ND; Digikey Link: https://www.digikey.ca/product-detail/en/zf-electronics/SRB22A2FBBNN/CH755-ND/446021; Price: 1.276 CAD; Rating: 10A 125V; ComponentLink1Description: Digikey; ComponentLink1URL: https://www.digikey.ca/product-detail/en/zf-electronics/SRB22A2FBBNN/CH755-ND/446021; ComponentLink2Description: Datasheet; ComponentLink2URL: http://switches-sensors.zf.com/us/wp-content/uploads/sites/7/2012/10/Rocker_SRB_Datasheet1.pdf
footprint SWITCH ROCKER SPST 10A 125V
pins: 0, 1

## SW SLIDE
designator S?, comment SPST 8.5A 125V
SWITCH SLIDE SPST 8.5A 125V; MP: GF-123-0054; MF: CW Industries; Digikey: CWI333-ND; Digikey Link: https://www.digikey.com/en/products/detail/cw-industries/GF-123-0054/4089770; Price: 1.25 CAD; Rating: 8.5A 125V; ComponentLink1Description: Digikey; ComponentLink1URL: https://www.digikey.ca/product-detail/en/zf-electronics/SRB22A2FBBNN/CH755-ND/446021; ComponentLink2Description: Datasheet; ComponentLink2URL: http://switches-sensors.zf.com/us/wp-content/uploads/sites/7/2012/10/Rocker_SRB_Datasheet1.pdf
footprint SPST GF-123-0054
pins: 0, 1

## Teco-FSMSM
designator *, comment push button
footprint TECO-FSMSM
pins: 1, 2

## Test Point (Via)
designator TP?  (value not drawn)
footprint TP (Test point (40mil Standard))
pins: 1

## Test Point - 5019
designator TP?
PC Test Point, Miniature Phosphor Bronze, Silver Plating Surface Mount Mounting Type; MP: 5019; MF: Keystone Electronics; Value: *; Package: 2010 Keystone; Digi-Key_Part_Number: 36-5019CT-ND; Digi-Key_Purchase_URL: https://www.digikey.com/product-detail/en/keystone-electronics/5019/36-5019CT-ND/3907344?utm_source=snapeda&utm_medium=aggregator&utm_campaign=symbol
footprint TP380X203
pins: 1 TP

## TEST POINT KEYSTONE 5012
designator TP?
5012# 3M(TM) Decal Holder Strip 5012; Manufacturer: Keystone Electronics; Manufacturer Part Number: 5012; Body Material: PBT,Bronze; Number of Contacts: 1; Gender: Female; Insulation: Insulated; Inside Diameter: 1.78mm; Hole Diameter: 1.6mm; Supplier 1: Digi-Key; RoHS: Yes; Category: Test Probes, Leads and Clips; Stock 1: 95698; Pricing 1: 1=0.42000, 25=0.34080, 100=0.30150, 250=0.28304, 500=0.25230, 1000=0.19884, 2500=0.18180, 5000=0.17044 (USD); Mount: PCB,Through Hole; Color: White; Contact Material: Bronze; Contact Plating: Silver,Tin; Material: Nylon,Bronze,Silver; Housing Color: White; Packaging: Bulk; Package Quantity: 100; Series: THM; Termination: Through Hole; Orientation: Straight; Number of Ports: 1; Diameter: 3.18mm; Length: 11.3mm; RoHS Compliant: Yes; REACH SVHC: No SVHC; Lead Free: Lead Free; Flammability Rating: UL94 V-0; ComponentLink1URL: https://datasheet.ciiva.com/27052/1582065-27052612.pdf?src-supplier=Jameco; ComponentLink1Description: https://datasheet.ciiva.com/27052/1582065-27052612.pdf?src-supplier=Jameco; ComponentLink2URL: https://datasheet.ciiva.com/2917/5012-2917634.pdf?src-supplier=Digi-Key; ComponentLink2Description: https://datasheet.ciiva.com/2917/5012-2917634.pdf?src-supplier=Digi-Key; ComponentLink3URL: https://datasheet.ciiva.com/16200/m60-2p60-16200039.pdf?src-supplier=Future+Electronics; ComponentLink3Description: https://datasheet.ciiva.com/16200/m60-2p60-16200039.pdf?src-supplier=Future+Electronics; ComponentLink4URL: https://datasheet.ciiva.com/16884/70182825-16884150.pdf?src-supplier=Allied+Electronics; ComponentLink4Description: https://datasheet.ciiva.com/16884/70182825-16884150.pdf?src-supplier=Allied+Electronics; ComponentLink5URL: https://datasheet.ciiva.com/22631/1703983-22631115.pdf?src-supplier=Element14; ComponentLink5Description: https://datasheet.ciiva.com/22631/1703983-22631115.pdf?src-supplier=Element14; ComponentLink6URL: https://datasheet.ciiva.com/1454/1703983-1454835.pdf?src-supplier=Element14; ComponentLink6Description: https://datasheet.ciiva.com/1454/1703983-1454835.pdf?src-supplier=Element14; Supplier Part Number 1: 36-5012-ND
footprint TP KEYSTONE 501x (Keystone 5010-5014 & 5125-5129)
pins: 1

## THERM 10k
designator *
footprint THERM
pins: 1, 2

## TLE5501
designator U?
TMR 360deg Magnetic Encoder; Manufacturer: Infineon Technologies; Manufacturer Part Number: TLE5501E0001XUMA1; Digi-Key Part Number: TLE5501E0001XUMA1DKR-ND; Footprint: 8-SOIC; Package: PG-DSO-8-16; Supplier 1: Digi-Key; Supplier Part Number 1: TLE5501E0001XUMA1CT-ND
footprint 8-SOIC
pins: 1 COS_P, 2 COS_N, 3 GND, 4 GND, 5 NC, 6 VDD, 7 SIN_N, 8 SIN_P

## TMC4671
designator U?
Motor Driver, -40 To 125Deg C Rohs Compliant: Yes; Manufacturer Part Number: TMC4671-LA; MF: TRINAMIC; MPN: TMC4671; Supplier 1: Digi-Key; Manufacturer: Trinamic; RoHS: No; Category: Motor Drivers; Stock 1: 1349; Pricing 1: 1=7.94000 (USD); Supplier Part Number 1: 1460-TMC4671-LA-ND
footprint QFN40P1050X650X90_HS-77N (QFN, 76-Leads, Body 10,50x6,50mm, Pitch 0,40mm, Thermal Pad 9,00x5,00mm, IPC Medium Density)
pins: 1 GPIO5/AENC_UX_MCD/DBGSPI_MOSI (io), 2 VCCIO1 (power), 3 GNDIO1 (power), 4 GPIO6/AENC_VN_MCD/DBGSPI_MISO (io), 5 GPIO7/AENC_WY_MCD/DBGSPI_TRG (io), 6 ~{SPI_CS} (in), 7 SPI_SCK (in), 8 SPI_MOSI (in), 9 SPI_MISO (out), 10 UART_RXD (in), 11 UART_TXD (out), 12 STATUS (out), 13 VCCIO2 (power), 14 GNDIO2 (power), 15 VCCCORE1 (power), 16 ADC_I0_POS (in), 17 ADC_I0_NEG (in), 18 ADC_I1_POS (in), 19 ADC_I1_NEG (in), 20 ADC_VM (in), 21 AGPI_A (in), 22 AGPI_B (in), 23 V5 (power), 24 GNDA (power), 25 AENC_UX_POS (in), 26 AENC_UX_NEG (in), 27 AENC_VN_POS (in), 28 AENC_VN_NEG (in), 29 AENC_WY_POS (in), 30 AENC_WY_NEG (in), 31 BRAKE (out), 32 ENO (out), 33 ENC_N (in), 34 ENC_B (in), 35 ENC_A (in), 36 HALL_WY (in), 37 HALL_V (in), 38 HALL_UX (in), 39 PWM_UX1_H (out), 40 PWM_UX1_L (out), 41 PWM_VX2_H (out), 42 PWM_VX2_L (out), 43 VCCIO3 (power), 44 GNDIO3 (power), 45 VCCCORE2 (power), 46 PWM_WY1_H (out), 47 PWM_WY1_L (out), 48 PWM_Y2_H (out), 49 PWM_Y2_L (out), 50 ~{RST} (in), 51 CLK (in), 52 VCCIO4 (power), 53 GNDIO4 (power), 54 TEST (in), 55 ENI (in), 56 DIR (in), 57 STEP (in), 58 PWM_I (in), 59 PWM_IDLE_H (in), 60 PWM_IDLE_L (in), 61 VCCIO5 (power), 62 GNDIO5 (power), 63 VCCCORE3 (power), 64 ENC2_A (in), 65 ENC2_B (in), 66 ENC2_N (in), 67 REF_L (in), 68 REF_H (in), 69 REF_R (in), 70 GPIO0/ADC_I0_MCD (io), 71 GPIO1/ADC_I1_MCD (io), 72 VCCIO6 (power), 73 GNDIO6 (power), 74 GPIO2/ADC_VM_MCD (io), 75 GPIO3/AGPI_A_MCD/~{DBGSPI_CS} (io), 76 GPIO4/AGPI_B_MCD/DBGSPI_SCK (io), 77 EPAD

## TMC6100
designator U?
GATE DRIVER IC 8-60V QFN37; DK Part No.: 1460-TMC6100-LA-TCT-ND; Manufacturer: Trinamic Motion Control GmbH; Manufacturer No.: TMC6100-LA-T; DK Link: https://www.digikey.ca/en/products/detail/trinamic-motion-control-gmbh/TMC6100-LA-T/11508197?s=N4IgTCBcDaIC4FsDGA2AjABgyAugXyA; Supplier 1: Newark; Supplier Part Number 1: 54AH1603
footprint QFN50P700X700X85_HS-45N (QFN, 44-Leads, Body 7.00x7.00mm, Pitch 0.50mm, Thermal Pad 4.00x4.00mm, IPC Medium Density)
pins: 1 CU, 2 NC, 3 LSW (out), 4 LSV (out), 5 LSU (out), 6 12VOUT (out), 7 5VOUT (out), 8 GNDA (power), 9 TEST (in), 10 CSN_IDRV0 (in), 11 SCK_IDRV1 (in), 12 SDI (in), 13 SDO_SINGLE (io), 14 UH (in), 15 UL (in), 16 VCC_IO (power), 17 VH (in), 18 VL (in), 19 WH (in), 20 WL (in), 21 CLK (in), 22 SPE (in), 23 FAULT (out), 24 DRV_EN (in), 25 VSA (power), 26 CPO (out), 27 CPI (in), 28 VS (power), 29 VCP (power), 30 CW, 31 HSW (out), 32 W, 33 V, 34 HSV (out), 35 CV, 36 U, 37 HSU (out), 38 GND

## TMC6140
designator U?
GATE DRIVER IC 5-30V QFN36; Manufacturer: Trinamic Motion Control; Manufacturer Part Number: TMC6140-LA-T; DK Number: 1460-TMC6140-LA-TCT-ND; DK Link: https://www.digikey.ca/en/products/detail/trinamic-motion-control-gmbh/TMC6140-LA-T/14565025; V rating: 5-30V; Supplier 1: Digi-Key; Supplier Part Number 1: 1460-TMC6140-LA-TCT-ND
footprint TMC6140
pins: 1 LSW (out), 2 CV, 3 HSV (out), 4 V (io), 5 LSV (out), 6 LSU (out), 7 U (io), 8 HSU (out), 9 CU, 10 SW (out), 11 VS (power), 12 VDD5 (out), 13 UH (in), 14 UL (in), 15 VH (in), 16 VL (in), 17 WH (in), 18 WL (in), 19 SH_SET (in), 20 DIAG (out), 21 VCC_IO (in), 22 SO1 (out), 23 SO2 (out), 24 nSI (in), 25 SO3 (out), 26 SI1 (in), 27 SI2 (in), 28 SI3 (in), 29 DRV_STRONG (in), 30 LOWGAIN (in), 31 ENABLE (in), 32 VCP (power), 33 V10 (out), 34 CW, 35 HSW (out), 36 W (io), 37 -, 38 GND_PAD

## TPS54331
designator U?
Buck Switching Regulator IC Positive Adjustable 0.8V 1 Output 3A 8-SOIC _0.154, 3.90mm Width_; MP: TPS54331DDAR; MF: Texas Instruments; SnapEDA_Link: https://www.snapeda.com/parts/TPS54331/Texas%20Instruments/view-part/568919/?ref=snap; Package: 8-PowerSOIC; Digikey: 296-39419-1-ND; Digikey Link: https://www.digikey.ca/product-detail/en/texas-instruments/TPS54331DDAR/296-39419-1-ND/5143369; Supplier 1: Digi-Key; Supplier Part Number 1: 296-39419-1-ND
footprint 8-PowerSOIC
pins: 1 BOOT (io), 2 VIN (in), 3 EN (in), 4 SS (io), 5 VSNS (in), 6 COMP (io), 7 GND (power), 8 PH (io), 9 PowerPAD (power) hidden

## TPS54531DDA
designator U?  Supplier Part Number 1: 296-36206-5-ND
Buck Switching Regulator IC Positive Adjustable 0.8V 1 Output 5A 8-PowerSOIC _0.154, 3.90mm Width_; MF: Texas Instruments; MP: TPS54531DDA; Value: *; Price: None; Package: SO-8 Texas Instruments; SnapEDA_Link: https://www.snapeda.com/parts/TPS54531DDA/Texas%20Instruments/view-part/289535/?ref=snap; Supplier 1: Digi-Key
footprint 8-PowerSOIC
pins: 1 BOOT (out), 2 VIN (in), 3 EN (in), 4 SS (in), 5 VSENSE (in), 6 COMP (out), 7 GND (power), 8 PH (out), 9 EXP (power), V1 EXP@1 (power), V2 EXP@2 (power), V3 EXP@3 (power), V4 EXP@4 (power), V5 EXP@5 (power), V6 EXP@6 (power)

## TPS563200DDCR
designator U
Buck Switching Regulator IC Positive Adjustable 0.76V 1 Output 3A SOT-23-6 Thin, TSOT-23-6; MF: Texas Instruments; MP: TPS563200DDCR; Package: TSOT-23 Texas Instruments; Value: *; Price: None; SnapEDA_Link: https://www.snapeda.com/parts/TPS563200DDCR/Texas%20Instruments/view-part/71685/?ref=snap; Availability: Unavailable; Supplier 1: Digi-Key; Supplier Part Number 1: 296-43663-1-ND
footprint TSOT-23-6 (SOT-23-6 Thin)
pins: 1 GND (power), 2 SW, 3 VIN (in), 4 VFB (in), 5 EN (in), 6 VBST

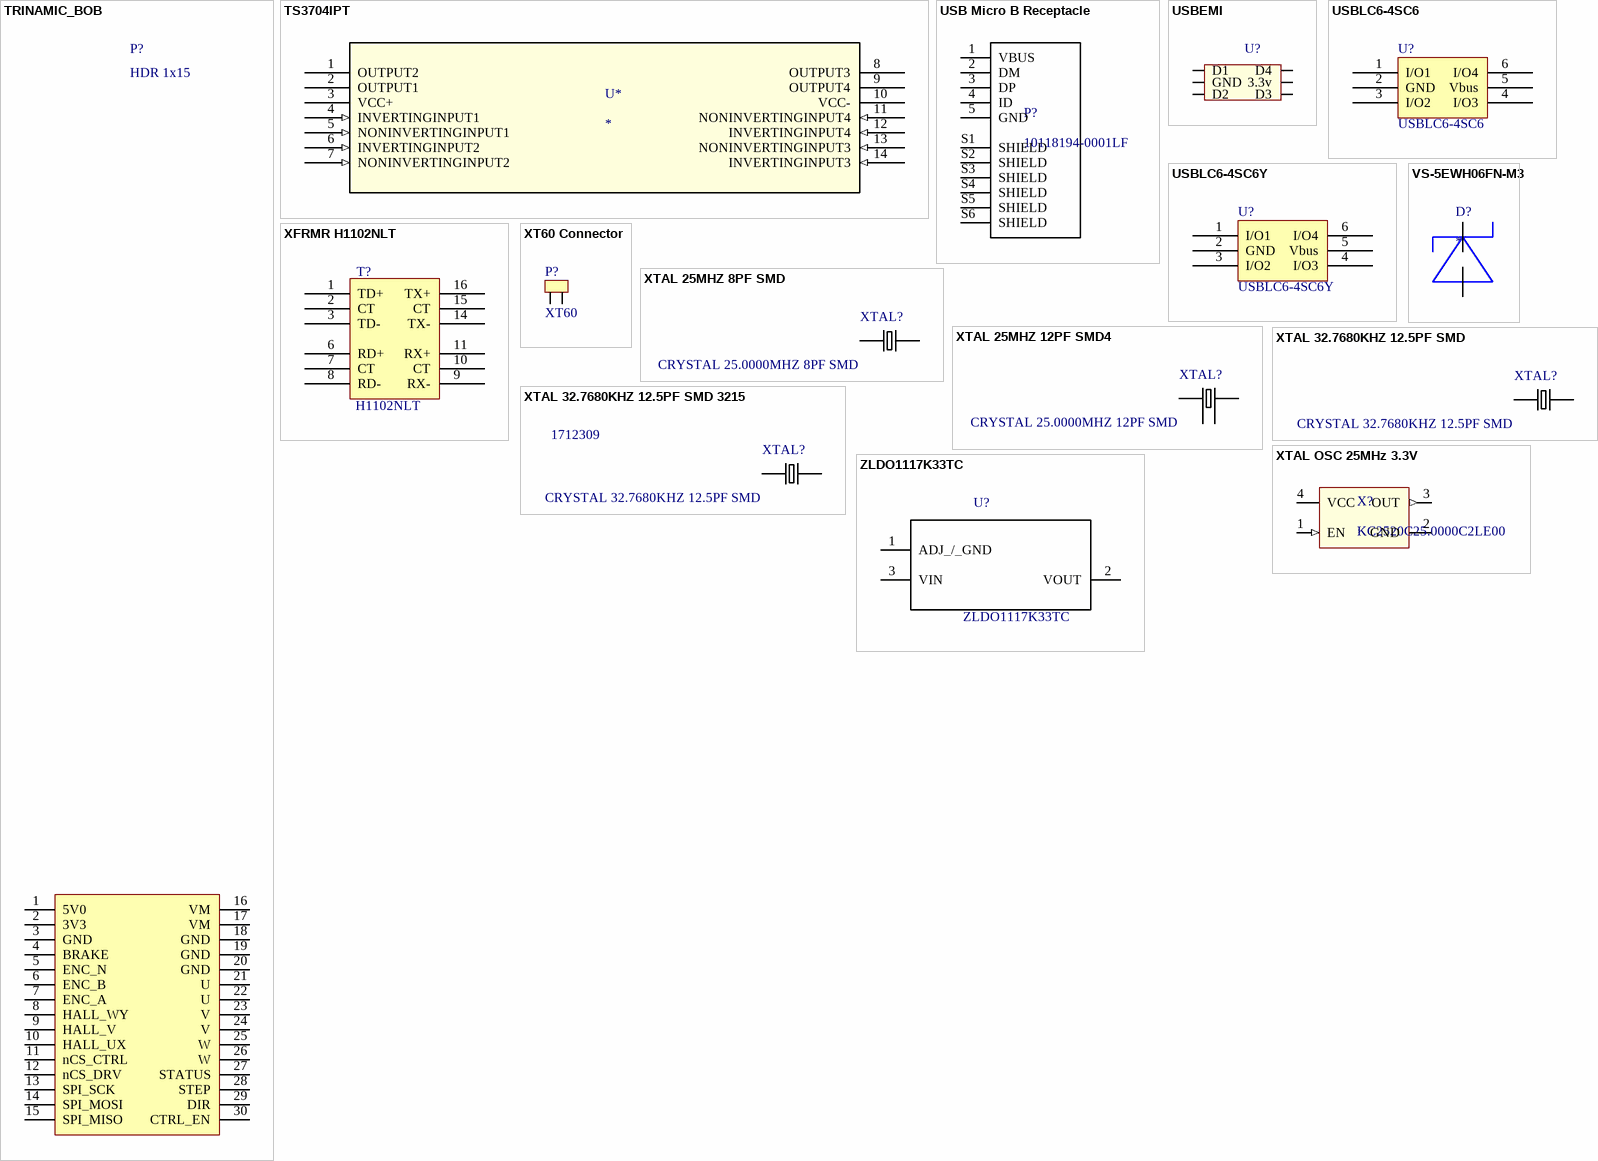
[diagram p15: symbols TRINAMIC_BOB to ZLDO1117K33TC]

## TRINAMIC_BOB
designator P?, comment HDR 1x15
footprint TRINAMIC_BOB
pins: 1 5V0, 2 3V3, 3 GND, 4 BRAKE, 5 ENC_N, 6 ENC_B, 7 ENC_A, 8 HALL_WY, 9 HALL_V, 10 HALL_UX, 11 nCS_CTRL, 12 nCS_DRV, 13 SPI_SCK, 14 SPI_MOSI, 15 SPI_MISO, 16 VM, 17 VM, 18 GND, 19 GND, 20 GND, 21 U, 22 U, 23 V, 24 V, 25 W, 26 W, 27 STATUS, 28 STEP, 29 DIR, 30 CTRL_EN

## TS3704IPT
designator U*
IC COMP QUAD CMOS MCRPWR 14TSSOP; Manufacturer: STMicroelectronics; Manu PN: TS3704IPT; Digikey PN: 497-4064-1-ND; Digikey: https://www.digikey.ca/en/products/detail/stmicroelectronics/TS3704IPT/720955?s=N4IgTCBcDaICoGUDMB2ADAFgJIAU4gF0BfIA
footprint TS3704IPT
pins: 1 OUTPUT2, 2 OUTPUT1, 3 VCC+ (power), 4 INVERTINGINPUT1 (in), 5 NONINVERTINGINPUT1 (in), 6 INVERTINGINPUT2 (in), 7 NONINVERTINGINPUT2 (in), 8 OUTPUT3, 9 OUTPUT4, 10 VCC- (power), 11 NONINVERTINGINPUT4 (in), 12 INVERTINGINPUT4 (in), 13 NONINVERTINGINPUT3 (in), 14 INVERTINGINPUT3 (in)

## USB Micro B Receptacle
designator P?, comment 10118194-0001LF
USB - micro B USB 2.0 Receptacle Connector 5 Position Surface Mount, Right Angle; Through Hole; MF: Amphenol ICC (FCI); Rating: 100VAC 1.8A; Digikey: 609-4618-1-ND; Digikey Link: https://www.digikey.ca/product-detail/en/amphenol-icc-fci/10118194-0001LF/609-4618-1-ND/2785382; MP: 10118194-0001LF; Price: 0.62000 CAD; ComponentLink1Description: Digikey; ComponentLink1URL: https://www.digikey.ca/product-detail/en/amphenol-icc-fci/10118194-0001LF/609-4618-1-ND/2785382; ComponentLink2Description: Datasheet; ComponentLink2URL: https://www.digikey.ca/en/datasheets/amphenol-fci/amphenol-fci-io-usb-micro
footprint USB Micro B Receptacle (CONN RCPT USB2.0 MICRO B SMD R/A)
pins: 1 VBUS, 2 DM, 3 DP, 4 ID, 5 GND, S1 SHIELD, S2 SHIELD, S3 SHIELD, S4 SHIELD, S5 SHIELD, S6 SHIELD

## USBEMI
designator U?, comment FILTER RC(PI) 33 OHM/47PF SMD  (value not drawn)
RC (Pi) EMI Filter 2nd Order Low Pass 2 Channel R = 33Ohms, C = 47pF  6-TSSOP, SC-88, SOT-363; MF: STMicroelectronics; MP: USBUF01W6; Digikey: 497-3087-1-ND; Digikey Link: https://www.digikey.ca/product-detail/en/stmicroelectronics/USBUF01W6/497-3087-1-ND/634851; Price: 0.776 CAD; Package: 6-TSSOP
footprint USBEMITSSOP (RC (Pi) EMI Filter 2nd Order Low Pass 2 Channel R = 33Ohms, C = 47pF  6-TSSOP, SC-88, SOT-363)
pins: 3.3v, D1, D2, D3, D4, GND

## USBLC6-4SC6
designator U?
footprint SOT23-6L (Footprint not found)
pins: 1 I/O1, 2 GND, 3 I/O2, 4 I/O3, 5 Vbus, 6 I/O4

## USBLC6-4SC6Y
designator U?
17V Clamp 5A (8/20µs) Ipp Tvs Diode Surface Mount SOT-23-6; Supplier 1: Digi-Key; Supplier 2: RSComponents; Supplier 3: Newark; Supplier 4: Future Electronics; Supplier 5: Mouser; Supplier Part Number 1: 497-11883-1-ND; Supplier Part Number 2: 1906795; Supplier Part Number 3: 51AC9790; Supplier Part Number 4: 9054348; Supplier Part Number 5: 511-USBLC6-4SC6Y
footprint SOT23-6L (Footprint not found)
pins: 1 I/O1, 2 GND, 3 I/O2, 4 I/O3, 5 Vbus, 6 I/O4

## VS-5EWH06FN-M3
designator D?
Diode Switching 600V 5A DPAK; MF: Vishay Diodes; MF PN: VS-5EWH06FN-M3; Digikey: VS-5EWH06FN-M3-ND; Digikey Link: https://www.digikey.ca/en/products/detail/vishay-semiconductor-diodes-division/VS-5EWH06FN-M3/4934509
footprint DPAK (TO-252); pin to pad IN>3 OUT>2
pins: IN, OUT

## XFRMR H1102NLT
designator T?, comment H1102NLT
Isolation and Data Interface (Encapsulated) Pulse Transformer 1:1 Transmitter, 1:1 Receiver Surface Mount; MF: Pulse Electronics; Package: SOIC-16; Price: 7.99 CAD; MP: H1102NL; Digikey: 553-1323-5-ND; Digikey Link: https://www.digikey.ca/en/products/detail/pulse-electronics-network/H1102NL/1036940?s=N4IgTCBcDaIBIEYEAYwDkAyIC6BfIA; Supplier 1: Digi-Key; Supplier Part Number 1: 553-1323-5-ND
footprint TRANSFORMER
pins: 1 TD+, 2 CT, 3 TD-, 6 RD+, 7 CT, 8 RD-, 9 RX-, 10 CT, 11 RX+, 14 TX-, 15 CT, 16 TX+

## XT60 Connector
designator P?, comment XT60
XT60 CONNECTORS FEMALE PAIR; MF: SparkFun Electronics; MP: PRT-10474; Digikey: 1568-1816-ND; Digikey Link: https://www.digikey.ca/product-detail/en/sparkfun-electronics/PRT-10474/1568-1816-ND/8258064; Package: XT60; Price: 2.13000 CAD; Value: N/A; Supplier 1: Digi-Key; Supplier Part Number 1: 1568-1816-ND
footprint XT60Connector
footprint Amass_XT60PW-M (Right angle XT60 Male Socket)
pins: 1, 2

## XTAL 25MHZ 8PF SMD
designator XTAL?, comment CRYSTAL 25.0000MHZ 8PF SMD
25MHz ±50ppm Crystal 8pF 70 Ohms 2-SMD, No Lead; MP: NX5032GA-25.000000MHZ-LN-CD-1; MF: NDK America, Inc.; ESR: 70 Ohms; Package: 2-SMD, No Lead; Price: 0.95 CAD; Frequency: 25MHz; Digikey: 644-1041-1-ND; Digikey Link: https://www.digikey.ca/product-detail/en/ndk-america-inc/NX5032GA-25.000000MHZ-LN-CD-1/644-1041-1-ND/1128913; Load Capacitance: 8pF; Supplier 1: Digi-Key; Supplier Part Number 1: 644-1041-1-ND
footprint SMD-2
pins: 1, 2

## XTAL 25MHZ 12PF SMD4
designator XTAL?, comment CRYSTAL 25.0000MHZ 12PF SMD
25MHz ±10ppm Crystal 12pF 40 Ohms 2-SMD, No Lead; MP: X322525MOB4SI; MF: Yangxing Tech; ESR: 70 Ohms; Package: 2-SMD, No Lead; Frequency: 25MHz; Load Capacitance: 12pF; Supplier 1: Digi-Key
footprint 3225-4SMD (3225 4PIn Package)
pins: 1, 2, 3, 4

## XTAL 32.7680KHZ 12.5PF SMD
designator XTAL?, comment CRYSTAL 32.7680KHZ 12.5PF SMD
32.768kHz ±20ppm Crystal 12.5pF 70 kOhms 2-SMD, No Lead; MP: NX3215SA-32.768K-STD-MUA-8; MF: NDK America, Inc.; Package: 2-SMD, No Lead; Price: 1.04000 CAD; Frequency: 32.768kHz; Digikey: 644-1156-1-ND; Digikey Link: https://www.digikey.ca/en/products/detail/ndk-america-inc/NX3215SA-32-768K-STD-MUA-8/2261469?s=N4IgTCBcDaIGwBYEFoCMqCsc3IHIBEQBdAXyA; Load Capacitance: 12.5pF; ESR: 70 kOhms; ComponentLink1Description: Digikey; ComponentLink1URL: https://www.digikey.ca/en/products/detail/ndk-america-inc/NX3215SA-32-768K-STD-MUA-8/2261469; ComponentLink2Description: Datasheet; ComponentLink2URL: https://media.digikey.com/datasheets/production/702868/1/NX3215SA-32-768K-STD-MUA-8.html; Supplier 1: Digi-Key; Supplier Part Number 1: 644-1156-1-ND
footprint SMD-2
pins: 1, 2

## XTAL 32.7680KHZ 12.5PF SMD 3215
designator XTAL?, comment CRYSTAL 32.7680KHZ 12.5PF SMD  Supplier Part Number 1: 1712309
32.768kHz ±20ppm Crystal 12.5pF 70 kOhms 3215SMD, No Lead; MP: Q13FC1350000400; MF: Seiko Epson; Package: 2-SMD, No Lead; Frequency: 32.768kHz; Load Capacitance: 12.5pF; ESR: 70 kOhms; ComponentLink1Description: Digikey; ComponentLink1URL: https://www.digikey.ca/en/products/detail/ndk-america-inc/NX3215SA-32-768K-STD-MUA-8/2261469; ComponentLink2Description: Datasheet; ComponentLink2URL: https://media.digikey.com/datasheets/production/702868/1/NX3215SA-32-768K-STD-MUA-8.html; Supplier 1: RSComponents
footprint 3215 SMD2 (3.2 x 1.5mm 2Lead)
pins: 1, 2

## XTAL OSC 25MHz 3.3V
designator X?, comment KC2520C25.0000C2LE00
Oscillator XO 25MHz ±15ppm 15pF CMOS 55% 2.5V/3.3V 4-Pin Mini-CSMD T/R; Manufacturer: Kyocera AVX; Max Supply Current: 5mA; Min Supply Voltage: 1.6V; Max Supply Voltage: 3.63V; Supplier 1: Digi-Key; Manufacturer Part Number: KC2520C25.0000C2LE00; RoHS: Yes; Category: Oscillators; Pricing 1: 1=1.78000, 10=1.70300, 50=1.66320, 100=1.42560, 500=1.38600, 1000=1.16820 (USD); Mount: Surface Mount; Case/Package: SMD/SMT; Min Operating Temperature: -40°C; Max Operating Temperature: 85°C; Packaging: Tape and Reel; Frequency: 25MHz; Frequency Stability: 15ppm; Termination: SMD/SMT; Load Capacitance: 15pF; Current Rating: 5mA; Package Quantity: 2000; Length: 0.098inch; Width: 2mm; Height: 0.028inch; RoHS Compliant: Yes; ComponentLink1URL: http://www.mouser.com/ds/2/40/kc2520c_c2_e-514854.pdf?src-supplier=Mouser; ComponentLink1Description: http://www.mouser.com/ds/2/40/kc2520c_c2_e-514854.pdf?src-supplier=Mouser; ComponentLink2URL: http://global.kyocera.com/prdct/electro/product/pdf/kc2520c_c2_e.pdf?src-supplier=Digi-Key; ComponentLink2Description: http://global.kyocera.com/prdct/electro/product/pdf/kc2520c_c2_e.pdf?src-supplier=Digi-Key; Supplier Part Number 1: 1253-1254-6-ND
footprint KC2520C25.0000C2LE00
pins: 1 EN (in), 2 GND (power), 3 OUT (out), 4 VCC (power)

## ZLDO1117K33TC
designator U?
Linear Voltage Regulator IC Positive Fixed 1 Output  1A TO-252-3; MF: Diodes Incorporated; Package: TO-252-3; MP: ZLDO1117K33TC; Digikey: ZLDO1117K33DIDKR-ND; Digikey Link: https://www.digikey.ca/product-detail/en/diodes-incorporated/ZLDO1117K33TC/ZLDO1117K33DIDKR-ND/2095639; Supplier 1: Digi-Key; Supplier Part Number 1: ZLDO1117K33DICT-ND
footprint DPAK (TO-252)
pins: 1 ADJ_/_GND (power), 2 VOUT (power), 3 VIN (power)